# Altium footprint library PCB - LEADED - MISC - SKYWORKS SC70JW-8.PCBLIB: 1 footprints
Each footprint in its own frame and in the unit in brackets; x right, y up, seen from the top. Pads: shape width x height; smd on the part's side, far side on the other; paste and mask are expansions set on the pad; w line width, h text height; cw(c..) or ccw(c..) is an arc to the next point about the centre after c.
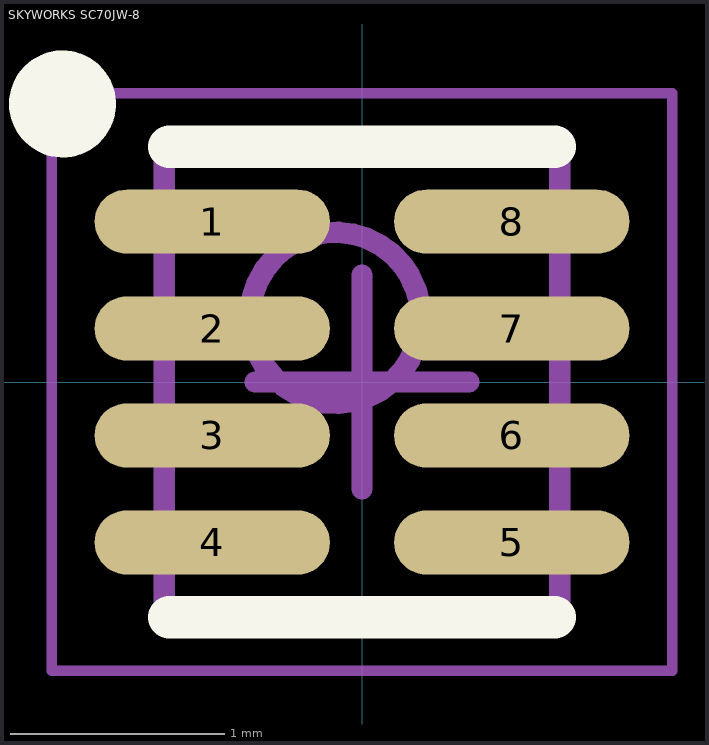
[diagram p0: the footprint, top view; thin cyan lines are the x and y axes]

## SKYWORKS SC70JW-8 [mm] "SC70J, 8-Leads, Body 2.20x2.20mm, Pitch 0.50mm, IPC Medium Density"
height 1.1
pads (8):
  oval 1.1x0.3 smd: 1(-0.7,0.75) 2(-0.7,0.25) 3(-0.7,-0.25) 4(-0.7,-0.75) 5(0.7,-0.75) 6(0.7,-0.25) 7(0.7,0.25) 8(0.7,0.75)
Top Overlay:
  circle w0.25: c-1.4,1.3 r0.125
  lines w0.2: -0.9,-1.1 0.9,-1.1 ; -0.9,1.1 0.9,1.1
Mechanical 13:
  circle w0.1: c-0.125,0.3 r0.4
  lines w0.1: -0.925,-1.1 0.925,-1.1 0.925,1.1 -0.925,1.1 -0.925,-1.1
Mechanical 15:
  lines w0.05: -1.45,-1.35 1.45,-1.35 1.45,1.35 -1.45,1.35 -1.45,-1.35
  lines w0.1: -0.5,0 0.5,0 ; 0,-0.5 0,0.5
3D body "SC70JW-8.STEP": height 1.1, standoff 0.01, extent -1.05,-1 1.05,1